# Altium footprint library DIP80.PcbLib: 1 footprints
Each footprint in its own frame and in the unit in brackets; x right, y up, seen from the top. Pads: shape width x height; smd on the part's side, far side on the other; paste and mask are expansions set on the pad; w line width, h text height; cw(c..) or ccw(c..) is an arc to the next point about the centre after c.
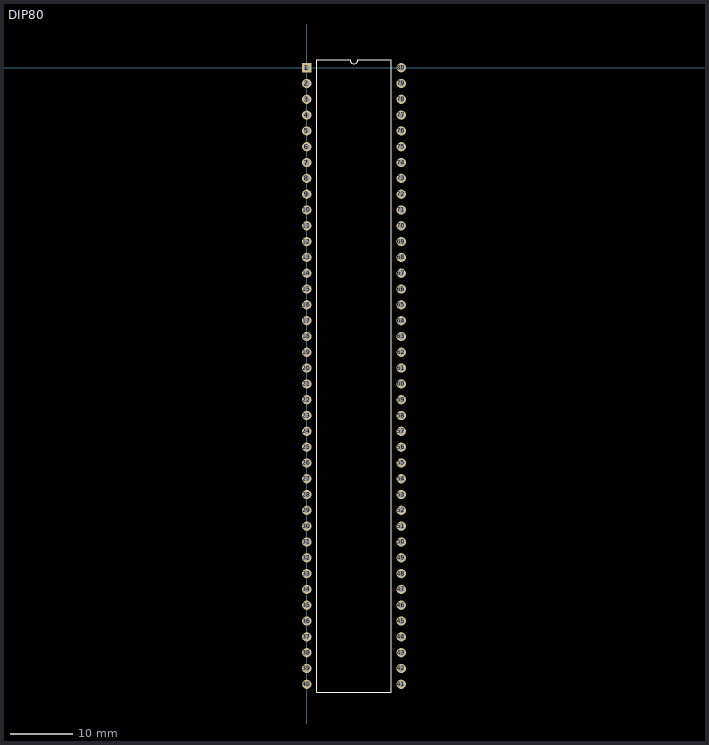
[diagram p0: the footprint, top view; thin cyan lines are the x and y axes]

## DIP80 [mm]
pads (80):
  rect 1.5x1.5 hole 0.9: 1(0,0)
  round 1.5 hole 0.9: 2(0,-2.54) 3(0,-5.08) 4(0,-7.62) 5(0,-10.16) 6(0,-12.7) 7(0,-15.24) 8(0,-17.78) 9(0,-20.32) 10(0,-22.86) 11(0,-25.4) 12(0,-27.94) 13(0,-30.48) 14(0,-33.02) 15(0,-35.56) 16(0,-38.1) 17(0,-40.64) 18(0,-43.18) 19(0,-45.72) 20(0,-48.26) 21(0,-50.8) 22(0,-53.34) 23(0,-55.88) 24(0,-58.42) 25(0,-60.96) 26(0,-63.5) 27(0,-66.04) 28(0,-68.58) 29(0,-71.12) 30(0,-73.66) 31(0,-76.2) 32(0,-78.74) 33(0,-81.28) 34(0,-83.82) 35(0,-86.36) 36(0,-88.9) 37(0,-91.44) 38(0,-93.98) 39(0,-96.52) 40(0,-99.06) 41(15.18,-99.06) 42(15.18,-96.52) 43(15.18,-93.98) 44(15.18,-91.44) 45(15.18,-88.9) 46(15.18,-86.36) 47(15.18,-83.82) 48(15.18,-81.28) 49(15.18,-78.74) 50(15.18,-76.2) 51(15.18,-73.66) 52(15.18,-71.12) 53(15.18,-68.58) 54(15.18,-66.04) 55(15.18,-63.5) 56(15.18,-60.96) 57(15.18,-58.42) 58(15.18,-55.88) 59(15.18,-53.34) 60(15.18,-50.8) 61(15.18,-48.26) 62(15.18,-45.72) 63(15.18,-43.18) 64(15.18,-40.64) 65(15.18,-38.1) 66(15.18,-35.56) 67(15.18,-33.02) 68(15.18,-30.48) 69(15.18,-27.94) 70(15.18,-25.4) 71(15.18,-22.86) 72(15.18,-20.32) 73(15.18,-17.78) 74(15.18,-15.24) 75(15.18,-12.7) 76(15.18,-10.16) 77(15.18,-7.62) 78(15.18,-5.08) 79(15.18,-2.54) 80(15.18,0)
Top Overlay:
  lines w0.2: 1.585,-100.33 1.585,1.27 6.955,1.27 ccw(c7.59,1.27) 8.225,1.27 13.595,1.27 13.595,-100.33 1.585,-100.33